# Altium integrated library NSC Amplifier Buffer.IntLib: 26 symbols
Pins are listed as number, name and electrical type; pins without a type are passive.

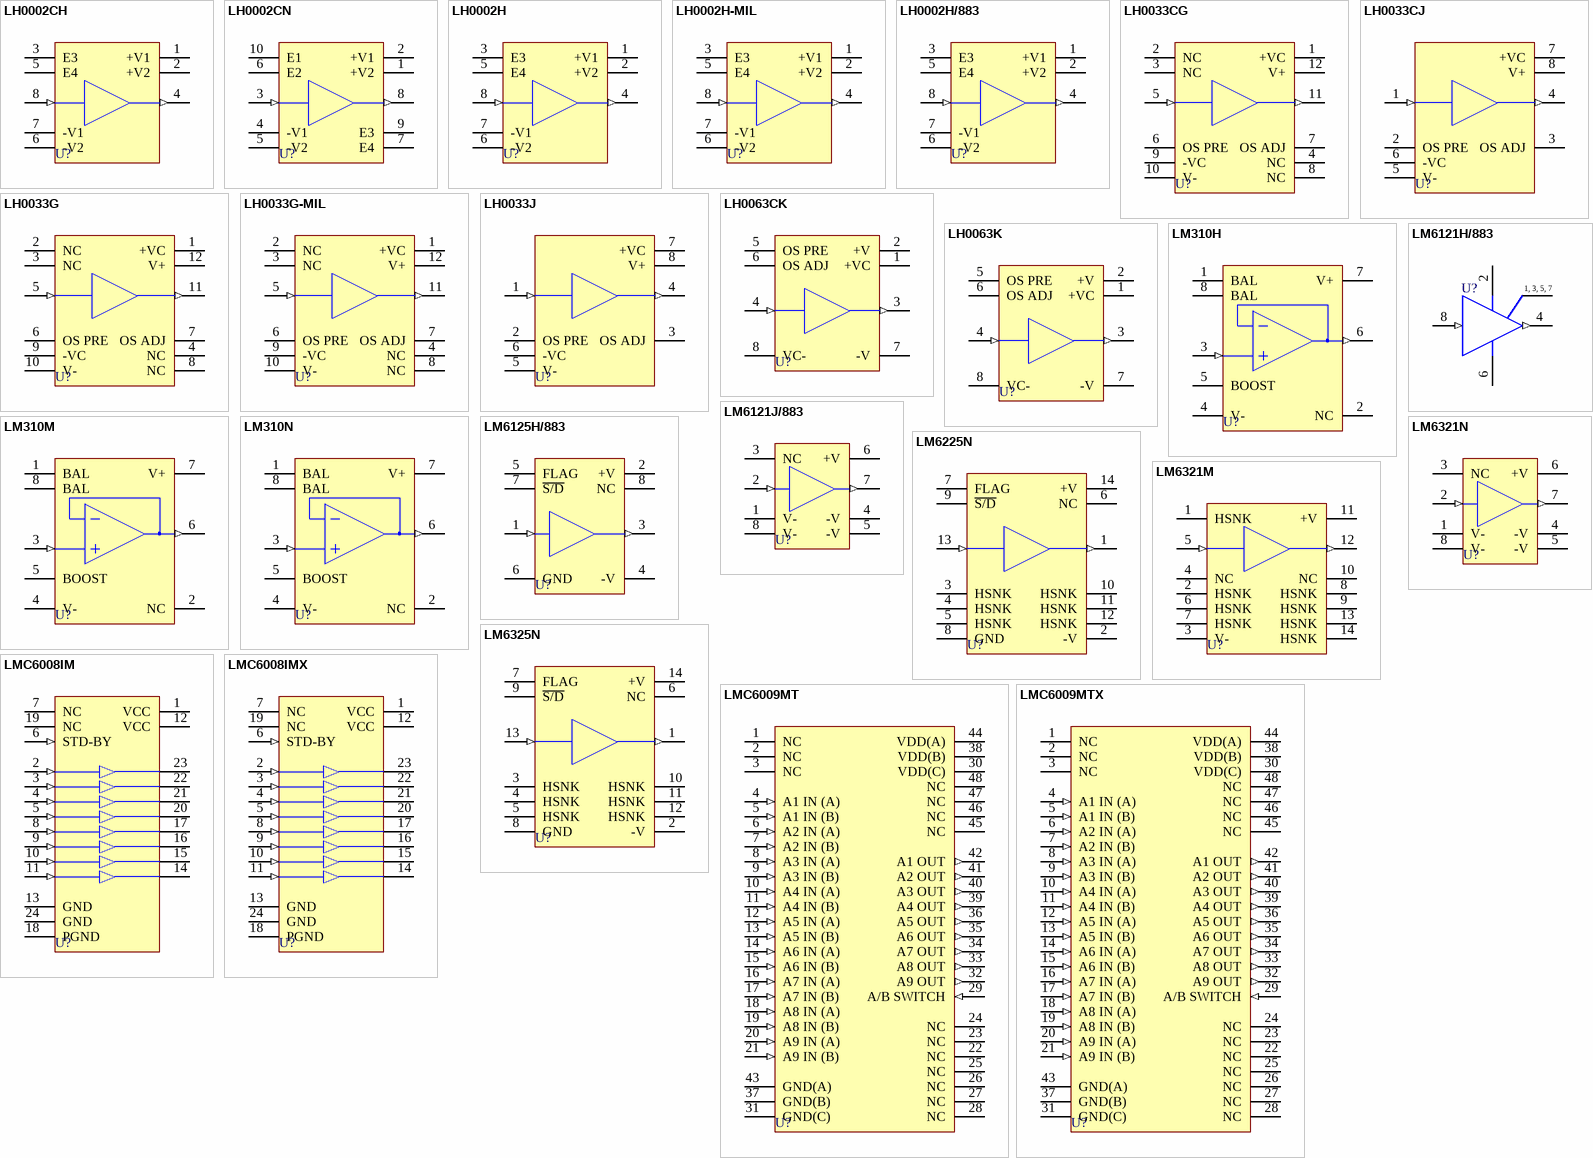
[diagram p0: symbols LH0002CH to LMC6009MTX]

## LH0002CH
designator U?
Buffer; ComponentAvailability: Obsolete; Published: 15-Apr-2002; DatasheetVersion: Feb-1995; PackageVersion: 1995; PackageReference: H08D; Publisher: Altium Limited; PackageDescription: Can; 8 Leads; Pin Circle Dia. 5.84 mm; Lead Dia. 0.48 mm (max); ComponentLink1Description: Manufacturer Link; ComponentLink1URL: http://www.national.com/; ComponentLink2Description: Discontinuation Notice; ComponentLink2URL: http://www.national.com/obs/obsolescence.txt
footprint H08D (Can; 8 Leads; Pin Circle Dia. 5.84 mm; Lead Dia. 0.48 mm (max))
pins: 1 +V1 (power), 2 +V2 (power), 3 E3, 4 OUT (out), 5 E4, 6 -V2 (power), 7 -V1 (power), 8 IN (in)

## LH0002CN
designator U?
Buffer; ComponentAvailability: Obsolete; Published: 15-Apr-2002; LatestRevisionDate: 06-Jun-2005; LatestRevisionNote: Stylized 3D Model Added.; DatasheetVersion: Feb-1995; PackageVersion: Feb-1995; PackageReference: N10A; Publisher: Altium Limited; PackageDescription: DIP; 10 Leads; Row Spacing 7.62 mm; Pitch 2.54 mm; ComponentLink1Description: Manufacturer Link; ComponentLink1URL: http://www.national.com/; ComponentLink2Description: Discontinuation Notice; ComponentLink2URL: http://www.national.com/obs/obsolescence.txt
footprint N10A (DIP; 10 Leads; Row Spacing 7.62 mm; Pitch 2.54 mm)
3D model N10A (DIP; 10 Leads; Row Spacing 7.62 mm; Pitch 2.54 mm)
pins: 1 +V2 (power), 2 +V1 (power), 3 VIN (in), 4 -V1 (power), 5 -V2 (power), 6 E2, 7 E4, 8 VOUT (out), 9 E3, 10 E1

## LH0002H
designator U?
Buffer; ComponentAvailability: Obsolete; Published: 15-Apr-2002; DatasheetVersion: Feb-1995; PackageVersion: 1995; PackageReference: H08D; Publisher: Altium Limited; PackageDescription: Can; 8 Leads; Pin Circle Dia. 5.84 mm; Lead Dia. 0.48 mm (max); ComponentLink1Description: Manufacturer Link; ComponentLink1URL: http://www.national.com/; ComponentLink2Description: Discontinuation Notice; ComponentLink2URL: http://www.national.com/obs/obsolescence.txt
footprint H08D (Can; 8 Leads; Pin Circle Dia. 5.84 mm; Lead Dia. 0.48 mm (max))
pins: 1 +V1 (power), 2 +V2 (power), 3 E3, 4 OUT (out), 5 E4, 6 -V2 (power), 7 -V1 (power), 8 IN (in)

## LH0002H-MIL
designator U?
Buffer; ComponentAvailability: Obsolete; Published: 15-Apr-2002; DatasheetVersion: Feb-1995; PackageVersion: 1995; PackageReference: H08D; Publisher: Altium Limited; PackageDescription: Can; 8 Leads; Pin Circle Dia. 5.84 mm; Lead Dia. 0.48 mm (max); ComponentLink1Description: Manufacturer Link; ComponentLink1URL: http://www.national.com/; ComponentLink2Description: Discontinuation Notice; ComponentLink2URL: http://www.national.com/obs/obsolescence.txt
footprint H08D (Can; 8 Leads; Pin Circle Dia. 5.84 mm; Lead Dia. 0.48 mm (max))
pins: 1 +V1 (power), 2 +V2 (power), 3 E3, 4 OUT (out), 5 E4, 6 -V2 (power), 7 -V1 (power), 8 IN (in)

## LH0002H/883
designator U?
Buffer; Published: 15-Apr-2002; DatasheetVersion: Feb-1995; PackageVersion: 1995; PackageReference: H08D; Publisher: Altium Limited; PackageDescription: Can; 8 Leads; Pin Circle Dia. 5.84 mm; Lead Dia. 0.48 mm (max); ComponentLink1Description: Manufacturer Link; ComponentLink1URL: http://www.national.com/
footprint H08D (Can; 8 Leads; Pin Circle Dia. 5.84 mm; Lead Dia. 0.48 mm (max))
pins: 1 +V1 (power), 2 +V2 (power), 3 E3, 4 OUT (out), 5 E4, 6 -V2 (power), 7 -V1 (power), 8 IN (in)

## LH0033CG
designator U?
Fast and Ultra-Fast Buffer; ComponentAvailability: Obsolete; Published: 15-Apr-2002; DatasheetVersion: Dec-1994; PackageVersion: 2000; PackageReference: G12B; Publisher: Altium Limited; PackageDescription: Can; 12 Leads; 10.16 mm Square Array; Lead Dia. 0.48 mm (max); ComponentLink1Description: Manufacturer Link; ComponentLink1URL: http://www.national.com/; ComponentLink2Description: Discontinuation Notice; ComponentLink2URL: http://www.national.com/obs/obsolescence.txt
footprint G12B (Can; 12 Leads; 10.16 mm Square Array; Lead Dia. 0.48 mm (max))
pins: 1 +VC (power), 2 NC, 3 NC, 4 NC, 5 IN (in), 6 OS PRE, 7 OS ADJ, 8 NC, 9 -VC (power), 10 V- (power), 11 OUT (out), 12 V+ (power)

## LH0033CJ
designator U?
Fast and Ultra-Fast Buffer; ComponentAvailability: Obsolete; Published: 15-Apr-2002; LatestRevisionDate: 06-Jun-2005; LatestRevisionNote: Stylized 3D Model Added.; DatasheetVersion: Dec-1994; PackageVersion: Dec-1994; PackageReference: HY08A; Publisher: Altium Limited; PackageDescription: DIP; 8 Leads; Row Spacing 22.86 mm; Pitch 2.54 mm; ComponentLink1Description: Manufacturer Link; ComponentLink1URL: http://www.national.com/; ComponentLink2Description: Discontinuation Notice; ComponentLink2URL: http://www.national.com/obs/obsolescence.txt
footprint HY08A (DIP; 8 Leads; Row Spacing 22.86 mm; Pitch 2.54 mm)
3D model HY08A (DIP; 8 Leads; Row Spacing 22.86 mm; Pitch 2.54 mm)
pins: 1 IN (in), 2 OS PRE, 3 OS ADJ, 4 OUT (out), 5 V- (power), 6 -VC (power), 7 +VC (power), 8 V+ (power)

## LH0033G
designator U?
Fast and Ultra-Fast Buffer; ComponentAvailability: Obsolete; Published: 15-Apr-2002; DatasheetVersion: Dec-1994; PackageVersion: 2000; PackageReference: G12B; Publisher: Altium Limited; PackageDescription: Can; 12 Leads; 10.16 mm Square Array; Lead Dia. 0.48 mm (max); ComponentLink1Description: Manufacturer Link; ComponentLink1URL: http://www.national.com/; ComponentLink2Description: Discontinuation Notice; ComponentLink2URL: http://www.national.com/obs/obsolescence.txt
footprint G12B (Can; 12 Leads; 10.16 mm Square Array; Lead Dia. 0.48 mm (max))
pins: 1 +VC (power), 2 NC, 3 NC, 4 NC, 5 IN (in), 6 OS PRE, 7 OS ADJ, 8 NC, 9 -VC (power), 10 V- (power), 11 OUT (out), 12 V+ (power)

## LH0033G-MIL
designator U?
Fast and Ultra-Fast Buffer; ComponentAvailability: Obsolete; Published: 15-Apr-2002; DatasheetVersion: Dec-1994; PackageVersion: 2000; PackageReference: G12B; Publisher: Altium Limited; PackageDescription: Can; 12 Leads; 10.16 mm Square Array; Lead Dia. 0.48 mm (max); ComponentLink1Description: Manufacturer Link; ComponentLink1URL: http://www.national.com/; ComponentLink2Description: Discontinuation Notice; ComponentLink2URL: http://www.national.com/obs/obsolescence.txt
footprint G12B (Can; 12 Leads; 10.16 mm Square Array; Lead Dia. 0.48 mm (max))
pins: 1 +VC (power), 2 NC, 3 NC, 4 NC, 5 IN (in), 6 OS PRE, 7 OS ADJ, 8 NC, 9 -VC (power), 10 V- (power), 11 OUT (out), 12 V+ (power)

## LH0033J
designator U?
Fast and Ultra-Fast Buffer; ComponentAvailability: Obsolete; Published: 15-Apr-2002; LatestRevisionDate: 06-Jun-2005; LatestRevisionNote: Stylized 3D Model Added.; DatasheetVersion: Dec-1994; PackageVersion: Dec-1994; PackageReference: HY08A; Publisher: Altium Limited; PackageDescription: DIP; 8 Leads; Row Spacing 22.86 mm; Pitch 2.54 mm; ComponentLink1Description: Manufacturer Link; ComponentLink1URL: http://www.national.com/; ComponentLink2Description: Discontinuation Notice; ComponentLink2URL: http://www.national.com/obs/obsolescence.txt
footprint HY08A (DIP; 8 Leads; Row Spacing 22.86 mm; Pitch 2.54 mm)
3D model HY08A (DIP; 8 Leads; Row Spacing 22.86 mm; Pitch 2.54 mm)
pins: 1 IN (in), 2 OS PRE, 3 OS ADJ, 4 OUT (out), 5 V- (power), 6 -VC (power), 7 +VC (power), 8 V+ (power)

## LH0063CK
designator U?
Fast and Ultra-Fast Buffer; Note: Short offset pins together unless adjusting offset voltage externally.; Note: Case is electrically isolated.; ComponentAvailability: Obsolete; Published: 15-Apr-2002; DatasheetVersion: Dec-1994; PackageReference: K08A; Publisher: Altium Limited; PackageDescription: Oval Flange Mount; 8 Leads; Pin Circle Dia. 12.7 mm; Lead Dia. 1.12 mm (max); ComponentLink1Description: Manufacturer Link; ComponentLink1URL: http://www.national.com/; ComponentLink2Description: Discontinuation Notice; ComponentLink2URL: http://www.national.com/obs/obsolescence.txt
footprint K08A (Oval Flange Mount; 8 Leads; Pin Circle Dia. 12.7 mm; Lead Dia. 1.12 mm (max))
pins: 1 +VC (power), 2 +V (power), 3 OUT (out), 4 IN (in), 5 OS PRE, 6 OS ADJ (power), 7 -V (power), 8 VC- (power)

## LH0063K
designator U?
Fast and Ultra-Fast Buffer; Note: Short offset pins together unless adjusting offset voltage externally.; Note: Case is electrically isolated.; ComponentAvailability: Obsolete; Published: 15-Apr-2002; DatasheetVersion: Dec-1994; PackageReference: K08A; Publisher: Altium Limited; PackageDescription: Oval Flange Mount; 8 Leads; Pin Circle Dia. 12.7 mm; Lead Dia. 1.12 mm (max); ComponentLink1Description: Manufacturer Link; ComponentLink1URL: http://www.national.com/; ComponentLink2Description: Discontinuation Notice; ComponentLink2URL: http://www.national.com/obs/obsolescence.txt
footprint K08A (Oval Flange Mount; 8 Leads; Pin Circle Dia. 12.7 mm; Lead Dia. 1.12 mm (max))
pins: 1 +VC (power), 2 +V (power), 3 OUT (out), 4 IN (in), 5 OS PRE, 6 OS ADJ (power), 7 -V (power), 8 VC- (power)

## LM310H
designator U?
Voltage Follower; ComponentAvailability: Obsolete; Published: 15-Apr-2002; DatasheetVersion: 1995; PackageVersion: 2000; PackageReference: H08C; Publisher: Altium Limited; PackageDescription: Can; 8 Leads; Pin Circle Dia. 5.08 mm; Lead Dia. 0.48 mm (max); ComponentLink1Description: Manufacturer Link; ComponentLink1URL: http://www.national.com/; ComponentLink2Description: Discontinuation Notice; ComponentLink2URL: http://www.national.com/obs/obsolescence.txt
footprint H08C (Can; 8 Leads; Pin Circle Dia. 5.08 mm; Lead Dia. 0.48 mm (max))
pins: 1 BAL, 2 NC, 3 IN (in), 4 V- (power), 5 BOOST, 6 OUT (out), 7 V+ (power), 8 BAL

## LM310M
designator U?
Voltage Follower; ComponentAvailability: Obsolete; Published: 15-Apr-2002; LatestRevisionDate: 13-Apr-2006; LatestRevisionNote: IPC-7351 Footprint Added.; DatasheetVersion: 1995; PackageVersion: Sep-1997; PackageReference: M08A; Publisher: Altium Limited; PackageDescription: 8-Pin Small Outline Integrated Circuit 1.27 mm Pitch; Code_JEDEC: MS-012-AA; Code_IPC: SOIC127P600-8; ComponentLink1Description: Manufacturer Link; ComponentLink1URL: http://www.national.com/; ComponentLink2Description: Discontinuation Notice; ComponentLink2URL: http://www.national.com/obs/obsolescence.txt
footprint M08A_N (SOIC, 8-Leads, Body 4.9x3.9mm, Pitch 1.27mm, IPC Medium Density)
footprint M08A_L (SOIC, 8-Leads, Body 4.9x3.9mm, Pitch 1.27mm, IPC High Density)
footprint M08A_M (SOIC, 8-Leads, Body 4.9x3.9mm, Pitch 1.27mm, IPC Low Density)
3D model M08A (8-Pin Small Outline Integrated Circuit 1.27 mm Pitch)
pins: 1 BAL, 2 NC, 3 IN (in), 4 V- (power), 5 BOOST, 6 OUT (out), 7 V+ (power), 8 BAL

## LM310N
designator U?
Voltage Follower; ComponentAvailability: Obsolete; Published: 15-Apr-2002; LatestRevisionDate: 06-Jun-2005; LatestRevisionNote: Stylized 3D Model Added.; DatasheetVersion: 1995; PackageVersion: Sep-1997; PackageReference: N08E; Publisher: Altium Limited; PackageDescription: DIP; 8 Leads; Row Spacing 7.62 mm; Pitch 2.54 mm; ComponentLink1Description: Manufacturer Link; ComponentLink1URL: http://www.national.com/; ComponentLink2Description: Discontinuation Notice; ComponentLink2URL: http://www.national.com/obs/obsolescence.txt
footprint N08E (DIP; 8 Leads; Row Spacing 7.62 mm; Pitch 2.54 mm)
3D model N08E (DIP; 8 Leads; Row Spacing 7.62 mm; Pitch 2.54 mm)
pins: 1 BAL, 2 NC, 3 IN (in), 4 V- (power), 5 BOOST, 6 OUT (out), 7 V+ (power), 8 BAL

## LM6121H/883
designator U?
High-Speed Buffer; ComponentAvailability: Obsolete; Published: 15-Apr-2002; DatasheetVersion: May-1998; PackageVersion: 2000; PackageReference: H08C; Publisher: Altium Limited; PackageDescription: Can; 8 Leads; Pin Circle Dia. 5.08 mm; Lead Dia. 0.48 mm (max); ComponentLink1Description: Manufacturer Link; ComponentLink1URL: http://www.national.com/; ComponentLink2Description: Datasheet; ComponentLink2URL: http://www.national.com/ds.cgi/LM/LM6121.pdf; ComponentLink3Description: Discontinuation Notice; ComponentLink3URL: http://www.national.com/obs/obsolescence.txt; ComponentLink4Description: URL Link1; ComponentLink4URL: http://www.national.com/pf/LM/LM6121.html
footprint H08C (Can; 8 Leads; Pin Circle Dia. 5.08 mm; Lead Dia. 0.48 mm (max))
pins: 1 NC, 2 V+ (power), 3 NC, 4 OUT (out), 5 NC, 6 V- (power), 7 NC, 8 IN (in)
text: 1, 3, 5, 7

## LM6121J/883
designator U?
High-Speed Buffer; Note: Pins 1, 4, 5 and 8 (V-) are heat-sinking pins. See application section on heat sinking requirements.; ComponentAvailability: Obsolete; Published: 15-Apr-2002; LatestRevisionDate: 06-Jun-2005; LatestRevisionNote: Stylized 3D Model Added.; DatasheetVersion: May-1998; PackageVersion: 2000; PackageReference: J08A; Publisher: Altium Limited; PackageDescription: DIP; 8 Leads; Row Spacing 7.62 mm; Pitch 2.54 mm; ComponentLink1Description: Manufacturer Link; ComponentLink1URL: http://www.national.com/; ComponentLink2Description: Datasheet; ComponentLink2URL: http://www.national.com/ds.cgi/LM/LM6121.pdf; ComponentLink3Description: Discontinuation Notice; ComponentLink3URL: http://www.national.com/obs/obsolescence.txt; ComponentLink4Description: URL Link1; ComponentLink4URL: http://www.national.com/pf/LM/LM6121.html
footprint J08A (DIP; 8 Leads; Row Spacing 7.62 mm; Pitch 2.54 mm)
3D model N08E (DIP; 8 Leads; Row Spacing 7.62 mm; Pitch 2.54 mm)
pins: 1 V- (power), 2 IN (in), 3 NC, 4 -V (power), 5 -V (power), 6 +V (power), 7 OUT (out), 8 V- (power)

## LM6125H/883
designator U?
High-Speed Buffer; ComponentAvailability: Obsolete; Published: 15-Apr-2002; DatasheetVersion: Dec-1994; PackageVersion: 2000; PackageReference: H08C; Publisher: Altium Limited; PackageDescription: Can; 8 Leads; Pin Circle Dia. 5.08 mm; Lead Dia. 0.48 mm (max); ComponentLink1Description: Manufacturer Link; ComponentLink1URL: http://www.national.com/; ComponentLink2Description: Datasheet; ComponentLink2URL: http://www.national.com/ds.cgi/LM/LM6125.pdf; ComponentLink3Description: Discontinuation Notice; ComponentLink3URL: http://www.national.com/obs/obsolescence.txt; ComponentLink4Description: URL Link1; ComponentLink4URL: http://www.national.com/pf/LM/LM6125.html
footprint H08C (Can; 8 Leads; Pin Circle Dia. 5.08 mm; Lead Dia. 0.48 mm (max))
pins: 1 IN (in), 2 +V (power), 3 OUT (out), 4 -V (power), 5 FLAG, 6 GND (power), 7 ~{S/D}, 8 NC

## LM6225N
designator U?
High-Speed Buffer; Note: Heat sink pins are internally connected to V-.; ComponentAvailability: Obsolete; Published: 15-Apr-2002; LatestRevisionDate: 06-Jun-2005; LatestRevisionNote: Stylized 3D Model Added.; DatasheetVersion: Dec-1994; PackageVersion: 2000; PackageReference: N14A; Publisher: Altium Limited; PackageDescription: DIP; 14 Leads; Row Spacing 7.62 mm; Pitch 2.54 mm; ComponentLink1Description: Manufacturer Link; ComponentLink1URL: http://www.national.com/; ComponentLink2Description: Datasheet; ComponentLink2URL: http://www.national.com/ds.cgi/LM/LM6125.pdf; ComponentLink3Description: Discontinuation Notice; ComponentLink3URL: http://www.national.com/obs/obsolescence.txt; ComponentLink4Description: URL Link1; ComponentLink4URL: http://www.national.com/pf/LM/LM6225.html
footprint N14A (DIP; 14 Leads; Row Spacing 7.62 mm; Pitch 2.54 mm)
3D model N14A (DIP; 14 Leads; Row Spacing 7.62 mm; Pitch 2.54 mm)
pins: 1 OUT (out), 2 -V (power), 3 HSNK, 4 HSNK, 5 HSNK, 6 NC, 7 FLAG, 8 GND (power), 9 ~{S/D}, 10 HSNK, 11 HSNK, 12 HSNK, 13 IN (in), 14 +V (power)

## LM6321M
designator U?
High-Speed Buffer; ComponentAvailability: Obsolete; Published: 15-Apr-2002; LatestRevisionDate: 13-Apr-2006; LatestRevisionNote: IPC-7351 Footprint Added.; DatasheetVersion: May-1998; PackageVersion: 2000; PackageReference: M14A; Publisher: Altium Limited; PackageDescription: 14-Pin Small Outline Integrated Circuit 1.27 mm Pitch; Code_IPC: SOIC127P600-14; ComponentLink1Description: Manufacturer Link; ComponentLink1URL: http://www.national.com/; ComponentLink2Description: Datasheet; ComponentLink2URL: http://www.national.com/ds.cgi/LM/LM6121.pdf; ComponentLink3Description: Discontinuation Notice; ComponentLink3URL: http://www.national.com/obs/obsolescence.txt; ComponentLink4Description: URL Link1; ComponentLink4URL: http://www.national.com/pf/LM/LM6321.html
footprint M14A_N (SOIC, 14-Leads, Body 8.6x3.9mm, Pitch 1.27mm, IPC Medium Density)
footprint M14A_L (SOIC, 14-Leads, Body 8.6x3.9mm, Pitch 1.27mm, IPC High Density)
footprint M14A_M (SOIC, 14-Leads, Body 8.6x3.9mm, Pitch 1.27mm, IPC Low Density)
3D model M14A (14-Pin Small Outline Integrated Circuit 1.27 mm Pitch)
simulation model LM6321_NSC (SUBCKT)
pins: 1 HSNK, 2 HSNK, 3 V- (power), 4 NC, 5 IN (in), 6 HSNK, 7 HSNK, 8 HSNK, 9 HSNK, 10 NC, 11 +V (power), 12 OUT (out), 13 HSNK, 14 HSNK

## LM6321N
designator U?
High-Speed Buffer; ComponentAvailability: Obsolete; Published: 15-Apr-2002; LatestRevisionDate: 06-Jun-2005; LatestRevisionNote: Stylized 3D Model Added.; DatasheetVersion: May-1998; PackageVersion: Sep-1997; PackageReference: N08E; Publisher: Altium Limited; PackageDescription: DIP; 8 Leads; Row Spacing 7.62 mm; Pitch 2.54 mm; ComponentLink1Description: Manufacturer Link; ComponentLink1URL: http://www.national.com/; ComponentLink2Description: Datasheet; ComponentLink2URL: http://www.national.com/ds.cgi/LM/LM6121.pdf; ComponentLink3Description: Discontinuation Notice; ComponentLink3URL: http://www.national.com/obs/obsolescence.txt; ComponentLink4Description: URL Link1; ComponentLink4URL: http://www.national.com/pf/LM/LM6321.html
footprint N08E (DIP; 8 Leads; Row Spacing 7.62 mm; Pitch 2.54 mm)
3D model N08E (DIP; 8 Leads; Row Spacing 7.62 mm; Pitch 2.54 mm)
simulation model LM6321_NSC (SUBCKT)
pins: 1 V- (power), 2 IN (in), 3 NC, 4 -V (power), 5 -V (power), 6 +V (power), 7 OUT (out), 8 V- (power)

## LM6325N
designator U?
High-Speed Buffer; Note: Heat sink pins are internally connected to V-.; ComponentAvailability: Obsolete; Published: 15-Apr-2002; LatestRevisionDate: 06-Jun-2005; LatestRevisionNote: Stylized 3D Model Added.; DatasheetVersion: Dec-1994; PackageVersion: 2000; PackageReference: N14A; Publisher: Altium Limited; PackageDescription: DIP; 14 Leads; Row Spacing 7.62 mm; Pitch 2.54 mm; ComponentLink1Description: Manufacturer Link; ComponentLink1URL: http://www.national.com/; ComponentLink2Description: Datasheet; ComponentLink2URL: http://www.national.com/ds.cgi/LM/LM6125.pdf; ComponentLink3Description: Discontinuation Notice; ComponentLink3URL: http://www.national.com/obs/obsolescence.txt; ComponentLink4Description: URL Link1; ComponentLink4URL: http://www.national.com/pf/LM/LM6325.html
footprint N14A (DIP; 14 Leads; Row Spacing 7.62 mm; Pitch 2.54 mm)
3D model N14A (DIP; 14 Leads; Row Spacing 7.62 mm; Pitch 2.54 mm)
pins: 1 OUT (out), 2 -V (power), 3 HSNK, 4 HSNK, 5 HSNK, 6 NC, 7 FLAG, 8 GND (power), 9 ~{S/D}, 10 HSNK, 11 HSNK, 12 HSNK, 13 IN (in), 14 +V (power)

## LMC6008IM
designator U?
8-Channel Buffer; ComponentAvailability: Obsolete; Published: 15-Apr-2002; LatestRevisionDate: 13-Apr-2006; LatestRevisionNote: IPC-7351 Footprint Added.; DatasheetVersion: Apr-1996; PackageVersion: 2000; PackageReference: M24B; Publisher: Altium Limited; PackageDescription: 24-Pin Small Outline Integrated Circuit 1.27 mm Pitch; ComponentLink1Description: Manufacturer Link; ComponentLink1URL: http://www.national.com/; ComponentLink2Description: Datasheet; ComponentLink2URL: http://www.national.com/ds.cgi/LM/LMC6008.pdf; ComponentLink3Description: Discontinuation Notice; ComponentLink3URL: http://www.national.com/obs/obsolescence.txt; ComponentLink4Description: URL Link1; ComponentLink4URL: http://www.national.com/pf/LM/LMC6008.html
footprint M24B_N (SOIC, 24-Leads, Body 15.4x7.5mm, Pitch 1.27mm, IPC Medium Density)
footprint M24B_L (SOIC, 24-Leads, Body 15.4x7.5mm, Pitch 1.27mm, IPC High Density)
footprint M24B_M (SOIC, 24-Leads, Body 15.4x7.5mm, Pitch 1.27mm, IPC Low Density)
3D model M24B (24-Pin Small Outline Integrated Circuit 1.27 mm Pitch)
pins: 1 VCC (power), 2 IN1 (in), 3 IN2 (in), 4 IN3 (in), 5 IN4 (in), 6 STD-BY (in), 7 NC, 8 IN5 (in), 9 IN6 (in), 10 IN7 (in), 11 IN8 (in), 12 VCC (power), 13 GND (power), 14 OUT8 (hiz), 15 OUT7 (hiz), 16 OUT6 (hiz), 17 OUT5 (hiz), 18 PGND (power), 19 NC, 20 OUT4 (hiz), 21 OUT3 (hiz), 22 OUT2 (hiz), 23 OUT1 (hiz), 24 GND (power)

## LMC6008IMX
designator U?
8-Channel Buffer; ComponentAvailability: Obsolete; Published: 15-Apr-2002; LatestRevisionDate: 13-Apr-2006; LatestRevisionNote: IPC-7351 Footprint Added.; DatasheetVersion: Apr-1996; PackageVersion: 2000; PackageReference: M24B; Publisher: Altium Limited; PackageDescription: 24-Pin Small Outline Integrated Circuit 1.27 mm Pitch; ComponentLink1Description: Manufacturer Link; ComponentLink1URL: http://www.national.com/; ComponentLink2Description: Datasheet; ComponentLink2URL: http://www.national.com/ds.cgi/LM/LMC6008.pdf; ComponentLink3Description: Discontinuation Notice; ComponentLink3URL: http://www.national.com/obs/obsolescence.txt; ComponentLink4Description: URL Link1; ComponentLink4URL: http://www.national.com/pf/LM/LMC6008.html
footprint M24B_N (SOIC, 24-Leads, Body 15.4x7.5mm, Pitch 1.27mm, IPC Medium Density)
footprint M24B_L (SOIC, 24-Leads, Body 15.4x7.5mm, Pitch 1.27mm, IPC High Density)
footprint M24B_M (SOIC, 24-Leads, Body 15.4x7.5mm, Pitch 1.27mm, IPC Low Density)
3D model M24B (24-Pin Small Outline Integrated Circuit 1.27 mm Pitch)
pins: 1 VCC (power), 2 IN1 (in), 3 IN2 (in), 4 IN3 (in), 5 IN4 (in), 6 STD-BY (in), 7 NC, 8 IN5 (in), 9 IN6 (in), 10 IN7 (in), 11 IN8 (in), 12 VCC (power), 13 GND (power), 14 OUT8 (hiz), 15 OUT7 (hiz), 16 OUT6 (hiz), 17 OUT5 (hiz), 18 PGND (power), 19 NC, 20 OUT4 (hiz), 21 OUT3 (hiz), 22 OUT2 (hiz), 23 OUT1 (hiz), 24 GND (power)

## LMC6009MT
designator U?
9-Channel Buffer Amplifier for TFT-LCD; ComponentAvailability: Obsolete; Published: 15-Apr-2002; LatestRevisionDate: 06-Jun-2005; LatestRevisionNote: Stylized 3D Model Added.; DatasheetVersion: May-1999; PackageReference: MTD48; Publisher: Altium Limited; PackageDescription: Shrink Small Outline; 48 Leads; Body Width 6.1 mm; Pitch 0.5 mm; ComponentLink1Description: Manufacturer Link; ComponentLink1URL: http://www.national.com/; ComponentLink2Description: Datasheet; ComponentLink2URL: http://www.national.com/ds.cgi/LM/LMC6009.pdf; ComponentLink3Description: Discontinuation Notice; ComponentLink3URL: http://www.national.com/obs/obsolescence.txt; ComponentLink4Description: URL Link1; ComponentLink4URL: http://www.national.com/pf/LM/LMC6009.html
footprint MTD48 (Shrink Small Outline; 48 Leads; Body Width 6.1 mm; Pitch 0.5 mm)
3D model MTD48 (Shrink Small Outline; 48 Leads; Body Width 6.1 mm; Pitch 0.5 mm)
pins: 1 NC, 2 NC, 3 NC, 4 A1 IN (A) (in), 5 A1 IN (B) (in), 6 A2 IN (A) (in), 7 A2 IN (B) (in), 8 A3 IN (A) (in), 9 A3 IN (B) (in), 10 A4 IN (A) (in), 11 A4 IN (B) (in), 12 A5 IN (A) (in), 13 A5 IN (B) (in), 14 A6 IN (A) (in), 15 A6 IN (B) (in), 16 A7 IN (A) (in), 17 A7 IN (B) (in), 18 A8 IN (A) (in), 19 A8 IN (B) (in), 20 A9 IN (A) (in), 21 A9 IN (B) (in), 22 NC, 23 NC, 24 NC, 25 NC, 26 NC, 27 NC, 28 NC, 29 A/B SWITCH (in), 30 VDD(C) (power), 31 GND(C) (power), 32 A9 OUT (out), 33 A8 OUT (out), 34 A7 OUT (out), 35 A6 OUT (out), 36 A5 OUT (out), 37 GND(B) (power), 38 VDD(B) (power), 39 A4 OUT (out), 40 A3 OUT (out), 41 A2 OUT (out), 42 A1 OUT (out), 43 GND(A) (power), 44 VDD(A) (power), 45 NC, 46 NC, 47 NC, 48 NC

## LMC6009MTX
designator U?
9-Channel Buffer Amplifier for TFT-LCD; ComponentAvailability: Obsolete; Published: 15-Apr-2002; LatestRevisionDate: 06-Jun-2005; LatestRevisionNote: Stylized 3D Model Added.; DatasheetVersion: May-1999; PackageReference: MTD48; Publisher: Altium Limited; PackageDescription: Shrink Small Outline; 48 Leads; Body Width 6.1 mm; Pitch 0.5 mm; ComponentLink1Description: Manufacturer Link; ComponentLink1URL: http://www.national.com/; ComponentLink2Description: Datasheet; ComponentLink2URL: http://www.national.com/ds.cgi/LM/LMC6009.pdf; ComponentLink3Description: Discontinuation Notice; ComponentLink3URL: http://www.national.com/obs/obsolescence.txt; ComponentLink4Description: URL Link1; ComponentLink4URL: http://www.national.com/pf/LM/LMC6009.html
footprint MTD48 (Shrink Small Outline; 48 Leads; Body Width 6.1 mm; Pitch 0.5 mm)
3D model MTD48 (Shrink Small Outline; 48 Leads; Body Width 6.1 mm; Pitch 0.5 mm)
pins: 1 NC, 2 NC, 3 NC, 4 A1 IN (A) (in), 5 A1 IN (B) (in), 6 A2 IN (A) (in), 7 A2 IN (B) (in), 8 A3 IN (A) (in), 9 A3 IN (B) (in), 10 A4 IN (A) (in), 11 A4 IN (B) (in), 12 A5 IN (A) (in), 13 A5 IN (B) (in), 14 A6 IN (A) (in), 15 A6 IN (B) (in), 16 A7 IN (A) (in), 17 A7 IN (B) (in), 18 A8 IN (A) (in), 19 A8 IN (B) (in), 20 A9 IN (A) (in), 21 A9 IN (B) (in), 22 NC, 23 NC, 24 NC, 25 NC, 26 NC, 27 NC, 28 NC, 29 A/B SWITCH (in), 30 VDD(C) (power), 31 GND(C) (power), 32 A9 OUT (out), 33 A8 OUT (out), 34 A7 OUT (out), 35 A6 OUT (out), 36 A5 OUT (out), 37 GND(B) (power), 38 VDD(B) (power), 39 A4 OUT (out), 40 A3 OUT (out), 41 A2 OUT (out), 42 A1 OUT (out), 43 GND(A) (power), 44 VDD(A) (power), 45 NC, 46 NC, 47 NC, 48 NC